# EAGLE library part LM2776 (library yapo)
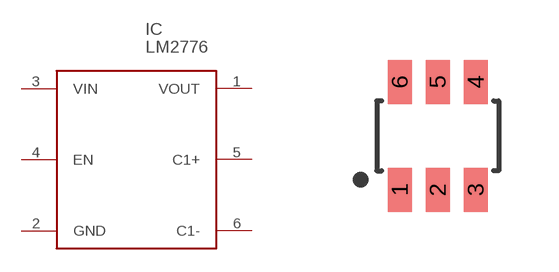
[diagram p84: symbol with the pads of SOT23-6; footprint SOT23-6]

Designator prefix IC

## LM2776  [SOT23-6]
1  VOUT
2  GND
3  VIN
4  EN
5  C1+
6  C1-

## Footprint SOT23-6 (pad centres in mm)
smd 0.6 x 1.1: 1 -0.95,-1.35; 2 0,-1.35; 3 0.95,-1.35; 4 0.95,1.35; 5 0,1.35; 6 -0.95,1.35